# Altium schematic symbol library logic.SchLib: 14 symbols
Pins are listed as number, name and electrical type; pins without a type are passive.

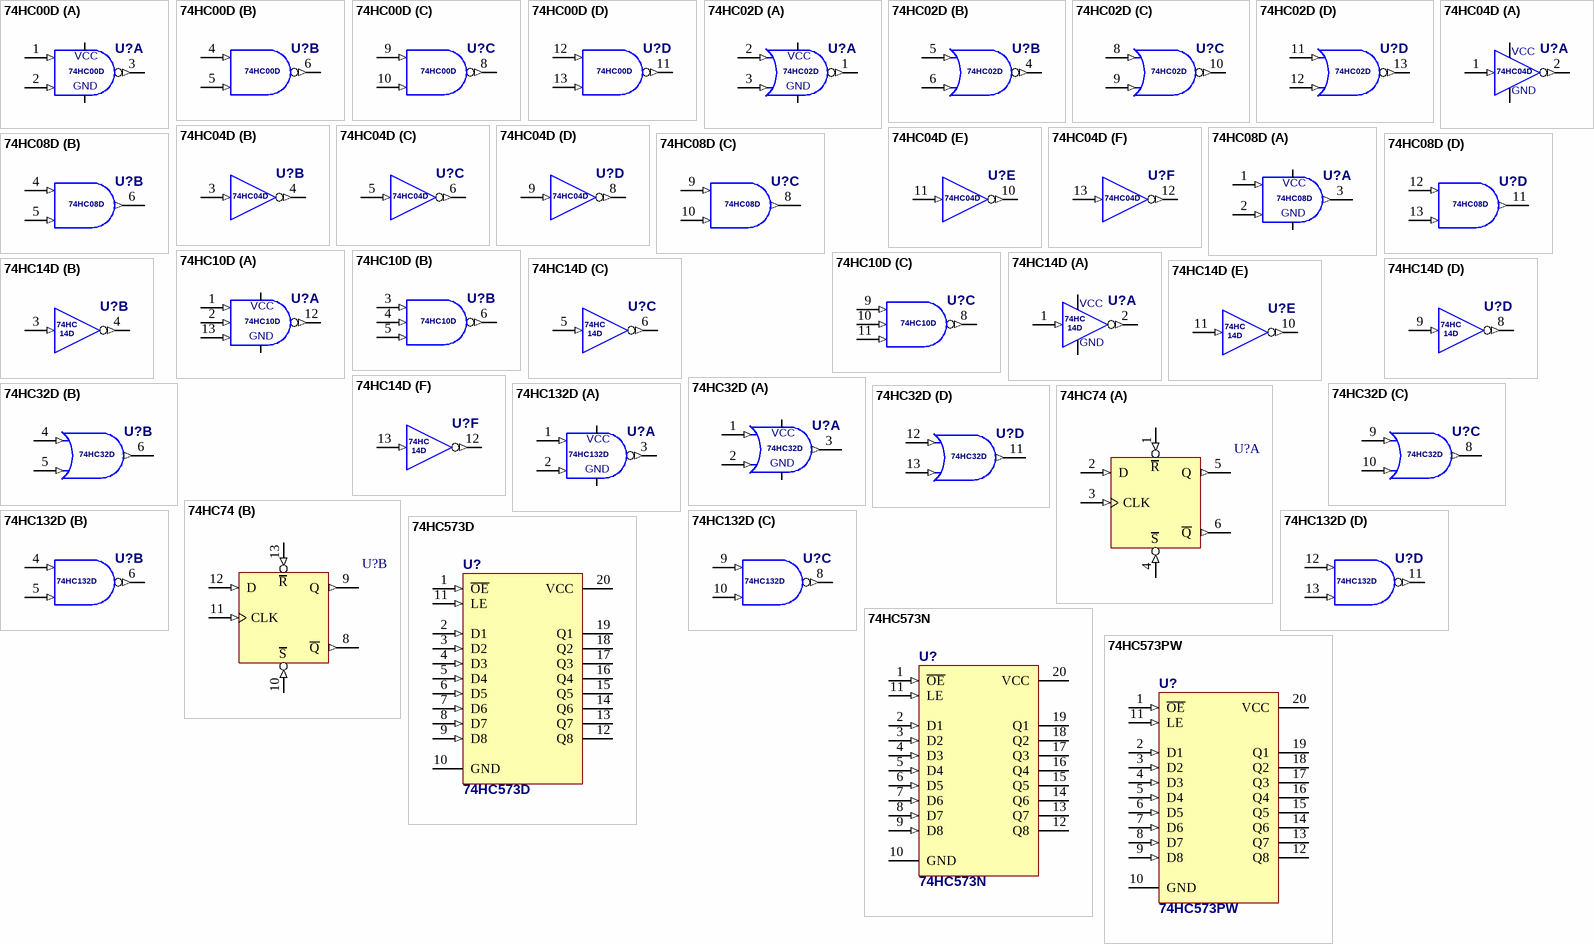
[diagram p0: symbols 74HC00D to 74HC573PW]

## 74HC00D
designator U?  (value not drawn)
Quadruple 2-Input Positive-NAND Gate; Published: 12-Jan-2007; PackageReference: SO-14
footprint SO14 (Small Outline; 14 Leads; Body Width 3.9 mm; Pitch 1.27 mm)
part A pins: 1 A (in), 2 B (in), 3 Y (out), 7 GND (power), 14 VCC (power)
part B pins: 4 A (in), 5 B (in), 6 Y (out)
part C pins: 8 Y (out), 9 A (in), 10 B (in)
part D pins: 11 Y (out), 12 A (in), 13 B (in)

## 74HC02D
designator U?  (value not drawn)
Quadruple 2-Input Positive-NOR Gate; Published: 12-Jan-2007; PackageReference: SO-14
footprint SO14 (Small Outline; 14 Leads; Body Width 3.9 mm; Pitch 1.27 mm)
part A pins: 1 Y (out), 2 A (in), 3 B (in), 7 GND (power), 14 VCC (power)
part B pins: 4 Y (out), 5 A (in), 6 B (in)
part C pins: 8 A (in), 9 B (in), 10 Y (out)
part D pins: 11 A (in), 12 B (in), 13 Y (out)

## 74HC04D
designator U?  (value not drawn)
Hex Inverter; Published: 26-Jan-2007; PackageReference: SO-14
footprint SO14 (Small Outline; 14 Leads; Body Width 3.9 mm; Pitch 1.27 mm)
part A pins: 1 A (in), 2 Y (out), 7 GND (power), 14 VCC (power)
part B pins: 3 A (in), 4 Y (out)
part C pins: 5 A (in), 6 Y (out)
part D pins: 8 Y (out), 9 A (in)
part E pins: 10 Y (out), 11 A (in)
part F pins: 12 Y (out), 13 A (in)

## 74HC08D
designator U?  (value not drawn)
Quadruple 2-Input AND Gate; Published: 12-Jan-2007; PackageReference: SO-14
footprint SO14 (Small Outline; 14 Leads; Body Width 3.9 mm; Pitch 1.27 mm)
part A pins: 1 A (in), 2 B (in), 3 Y (out), 7 GND (power), 14 VCC (power)
part B pins: 4 A (in), 5 B (in), 6 Y (out)
part C pins: 8 Y (out), 9 A (in), 10 B (in)
part D pins: 11 Y (out), 12 A (in), 13 B (in)

## 74HC10D
designator U?  (value not drawn)
Triple 3-Input Positive-NAND Gate; Published: 11-Jan-2007; PackageReference: SO-14
footprint SO14 (Small Outline; 14 Leads; Body Width 3.9 mm; Pitch 1.27 mm)
part A pins: 1 A (in), 2 B (in), 7 GND (power), 12 Y (out), 13 C (in), 14 VCC (power)
part B pins: 3 A (in), 4 B (in), 5 C (in), 6 Y (out)
part C pins: 8 Y (out), 9 A (in), 10 B (in), 11 C (in)

## 74HC14D
designator U?  (value not drawn)
Hex Schmitt-Trigger Inverter; Published: 05-Apr-2006
footprint SO14 (Small Outline; 14 Leads; Body Width 3.9 mm; Pitch 1.27 mm)
part A pins: 1 IN (in), 2 ~{OUT} (out), 7 GND (power), 14 VCC (power)
part B pins: 3 IN (in), 4 ~{OUT} (out)
part C pins: 5 IN (in), 6 ~{OUT} (out)
part D pins: 8 ~{OUT} (out), 9 IN (in)
part E pins: 10 ~{OUT} (out), 11 IN (in)
part F pins: 12 ~{OUT} (out), 13 IN (in)
part A text: 74HC; 14D
part B text: 74HC; 14D
part C text: 74HC; 14D
part D text: 74HC; 14D
part E text: 74HC; 14D
part F text: 74HC; 14D

## 74HC32D
designator U?  (value not drawn)
Quadruple 2-Input OR Gate; Published: 12-Jan-2007; PackageReference: SO-14
footprint SO14 (Small Outline; 14 Leads; Body Width 3.9 mm; Pitch 1.27 mm)
part A pins: 1 A (in), 2 B (in), 3 Y (out), 7 GND (power), 14 VCC (power)
part B pins: 4 A (in), 5 B (in), 6 Y (out)
part C pins: 8 Y (out), 9 A (in), 10 B (in)
part D pins: 11 Y (out), 12 A (in), 13 B (in)

## 74HC74
designator U?
Dual D-Type Positive-Edge-Triggered Flip-Flop with Clear and Preset; Published: 12-Jan-2007; PackageReference: SO-14
footprint SO14 (Small Outline; 14 Leads; Body Width 3.9 mm; Pitch 1.27 mm)
pins on every part: 7 GND (power) hidden to GND, 14 VCC (power) hidden to VCC
part A pins: 1 ~{R} (in), 2 D (in), 3 CLK (in), 4 ~{S} (in), 5 Q (out), 6 ~{Q} (out)
part B pins: 8 ~{Q} (out), 9 Q (out), 10 ~{S} (in), 11 CLK (in), 12 D (in), 13 ~{R} (in)
part A text: R; S
part B text: R; S

## 74HC132D
designator U?  (value not drawn)
Quad 2-Input NAND Schmitt Trigger; Published: 12-Jan-2007; PackageReference: SO-14
footprint SO14 (Small Outline; 14 Leads; Body Width 3.9 mm; Pitch 1.27 mm)
part A pins: 1 A (in), 2 B (in), 3 Y (out), 7 GND (power), 14 VCC (power)
part B pins: 4 A (in), 5 B (in), 6 Y (out)
part C pins: 8 Y (out), 9 A (in), 10 B (in)
part D pins: 11 Y (out), 12 A (in), 13 B (in)

## 74HC573D
designator U?
Octal D-type transparent latch; 3-state; DIP20 package; Published: 23-Jun-2006; PackageReference: SO-20
footprint DIP20
pins: 1 ~{OE} (in), 2 D1 (in), 3 D2 (in), 4 D3 (in), 5 D4 (in), 6 D5 (in), 7 D6 (in), 8 D7 (in), 9 D8 (in), 10 GND (power), 11 LE (in), 12 Q8 (hiz), 13 Q7 (hiz), 14 Q6 (hiz), 15 Q5 (hiz), 16 Q4 (hiz), 17 Q3 (hiz), 18 Q2 (hiz), 19 Q1 (hiz), 20 VCC (power)

## 74HC573N
designator U?
Octal D-type transparent latch; 3-state; SO20 package; Published: 23-Jun-2006; PackageReference: SO-20
footprint SO20 (Small Outline; 20 Leads; Body Width 3.9 mm; Pitch 1.27 mm)
pins: 1 ~{OE} (in), 2 D1 (in), 3 D2 (in), 4 D3 (in), 5 D4 (in), 6 D5 (in), 7 D6 (in), 8 D7 (in), 9 D8 (in), 10 GND (power), 11 LE (in), 12 Q8 (hiz), 13 Q7 (hiz), 14 Q6 (hiz), 15 Q5 (hiz), 16 Q4 (hiz), 17 Q3 (hiz), 18 Q2 (hiz), 19 Q1 (hiz), 20 VCC (power)

## 74HC573PW
designator U?
Octal D-type transparent latch; 3-state; TSSOP20 package; Published: 23-Jun-2006; PackageReference: SO-20
footprint TSSOP20 (20-Lead Thin Shrink Small Outline Package (TSSOP))
pins: 1 ~{OE} (in), 2 D1 (in), 3 D2 (in), 4 D3 (in), 5 D4 (in), 6 D5 (in), 7 D6 (in), 8 D7 (in), 9 D8 (in), 10 GND (power), 11 LE (in), 12 Q8 (hiz), 13 Q7 (hiz), 14 Q6 (hiz), 15 Q5 (hiz), 16 Q4 (hiz), 17 Q3 (hiz), 18 Q2 (hiz), 19 Q1 (hiz), 20 VCC (power)

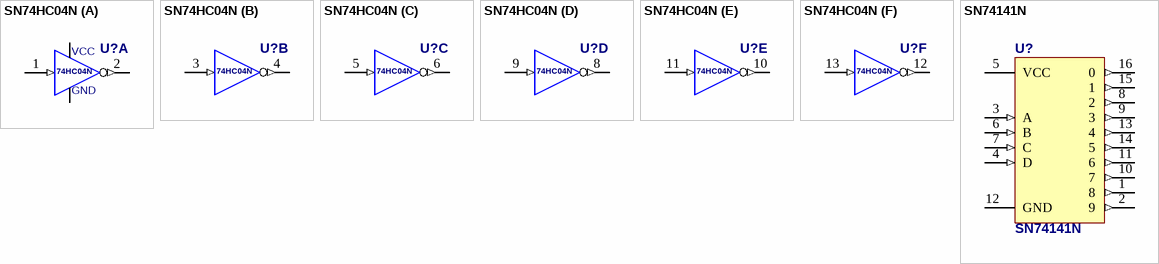
[diagram p1: symbols SN74HC04N to SN74141N]

## SN74HC04N
designator U?  (value not drawn)
Hex Inverter; Published: 26-Jan-2007; PackageReference: SO-14
footprint DIP14
part A pins: 1 A (in), 2 Y (out), 7 GND (power), 14 VCC (power)
part B pins: 3 A (in), 4 Y (out)
part C pins: 5 A (in), 6 Y (out)
part D pins: 8 Y (out), 9 A (in)
part E pins: 10 Y (out), 11 A (in)
part F pins: 12 Y (out), 13 A (in)
part A text: 74HC04N
part B text: 74HC04N
part C text: 74HC04N
part D text: 74HC04N
part E text: 74HC04N
part F text: 74HC04N

## SN74141N
designator U?
BCD to Decimal Decoder / Driver; Published: 23-Jun-2006; PackageReference: SO-20
footprint DIP16
pins: 1 8 (out), 2 9 (out), 3 A (in), 4 D (in), 5 VCC (power), 6 B (in), 7 C (in), 8 2 (out), 9 3 (out), 10 7 (out), 11 6 (out), 12 GND (power), 13 4 (out), 14 5 (out), 15 1 (out), 16 0 (out)